# Altium integrated library LT Amplifier Buffer.IntLib: 12 symbols
Pins are listed as number, name and electrical type; pins without a type are passive.

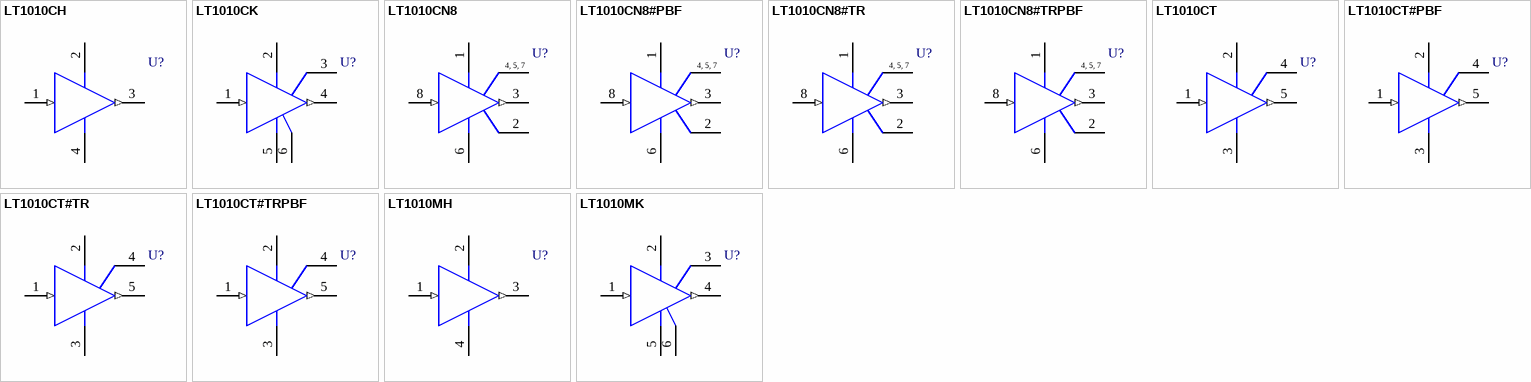
[diagram p0: symbols LT1010CH to LT1010MK]

## LT1010CH
designator U?
Fast ± 150mA Power Buffer; Note: Pin 4 is connected to the CASE.; Note: 136; Published: 8-Jun-2000; LatestRevisionDate: 17-Jul-2002; LatestRevisionNote: Re-released for DXP Platform.; DatasheetVersion: 1990; PackageReference: H4; Publisher: Altium Limited; PackageDescription: Can; 4 Leads; Pin Circle Dia. 5.08 mm; Lead Dia. 0.48 mm (max); ComponentLink1Description: Manufacturer Link; ComponentLink1URL: http://www.linear.com/; ComponentLink2Description: Datasheet; ComponentLink2URL: http://www.linear.com/pc/downloadDocument.do?navId=H0,C1,C1154,C1009,C1028,P1219,D1683
footprint H4 (Can; 4 Leads; Pin Circle Dia. 5.08 mm; Lead Dia. 0.48 mm (max))
pins: 1 IN (in), 2 V+ (power), 3 OUT (out), 4 V- (power)

## LT1010CK
designator U?
Fast ± 150mA Power Buffer; Note: Pins 5 and 6 are the mounting holes of the package.; Note: 137; Published: 8-Jun-2000; LatestRevisionDate: 17-Jul-2002; LatestRevisionNote: Re-released for DXP Platform.; DatasheetVersion: 1990; PackageReference: K4; Publisher: Altium Limited; PackageDescription: Oval Flange Mount; 4 Leads; Pin Circle Dia. 11.94 mm; Lead Dia. 1.09 mm (max); ComponentLink1Description: Manufacturer Link; ComponentLink1URL: http://www.linear.com/; ComponentLink2Description: Datasheet; ComponentLink2URL: http://www.linear.com/pc/downloadDocument.do?navId=H0,C1,C1154,C1009,C1028,P1219,D1683
footprint K4 (Oval Flange Mount; 4 Leads; Pin Circle Dia. 11.94 mm; Lead Dia. 1.09 mm (max))
pins: 1 IN (in), 2 V+ (power), 3 BIAS, 4 OUT (out), 5 V- (power), 6 V- (power)

## LT1010CN8
designator U?
Fast ± 150mA Power Buffer; Note: Pins 4, 5 and 7are NC (not internally connected) pins.; Note: 138; Published: 8-Jun-2000; LatestRevisionDate: 29-May-2009; LatestRevisionNote: Component Body Added.; DatasheetVersion: 1990; PackageVersion: N8 1002; PackageReference: N8; Publisher: Altium Limited; PackageDescription: DIP, Plastic, 8-Pin, Row Spacing 7.62 mm, Pitch 2.54 mm; ComponentLink1Description: Manufacturer Link; ComponentLink1URL: http://www.linear.com/; ComponentLink2Description: Datasheet; ComponentLink2URL: http://www.linear.com/pc/downloadDocument.do?navId=H0,C1,C1154,C1009,C1028,P1219,D1683
footprint N8 (DIP, 8-Leads, Row Spacing 7.62mm, Pitch 2.54mm, Body 9.78x6.48mm)
3D model N8 (DIP, Plastic, 8-Pin, Row Spacing 7.62 mm, Pitch 2.54 mm)
simulation model LT1010 (SUBCKT)
pins: 1 V+ (power), 2 BIAS, 3 OUT (out), 4 NC, 5 NC, 6 V- (power), 7 NC, 8 IN (in)
text: 4, 5, 7

## LT1010CN8#PBF
designator U?
Fast ± 150mA Power Buffer; Note: Pins 4, 5 and 7are NC (not internally connected) pins.; Note: 140; Published: 8-Jun-2000; LatestRevisionDate: 29-May-2009; LatestRevisionNote: Component Body Added.; DatasheetVersion: 1990; PackageVersion: N8 1002; PackageReference: N8; Publisher: Altium Limited; PackageDescription: DIP, Plastic, 8-Pin, Row Spacing 7.62 mm, Pitch 2.54 mm; ComponentLink1Description: Manufacturer Link; ComponentLink1URL: http://www.linear.com/; ComponentLink2Description: Datasheet; ComponentLink2URL: http://www.linear.com/pc/downloadDocument.do?navId=H0,C1,C1154,C1009,C1028,P1219,D1683
footprint N8 (DIP, 8-Leads, Row Spacing 7.62mm, Pitch 2.54mm, Body 9.78x6.48mm)
3D model N8 (DIP, Plastic, 8-Pin, Row Spacing 7.62 mm, Pitch 2.54 mm)
simulation model LT1010 (SUBCKT)
pins: 1 V+ (power), 2 BIAS, 3 OUT (out), 4 NC, 5 NC, 6 V- (power), 7 NC, 8 IN (in)
text: 4, 5, 7

## LT1010CN8#TR
designator U?
Fast ± 150mA Power Buffer; Note: Pins 4, 5 and 7are NC (not internally connected) pins.; Note: 139; Published: 8-Jun-2000; LatestRevisionDate: 29-May-2009; LatestRevisionNote: Component Body Added.; DatasheetVersion: 1990; PackageVersion: N8 1002; PackageReference: N8; Publisher: Altium Limited; PackageDescription: DIP, Plastic, 8-Pin, Row Spacing 7.62 mm, Pitch 2.54 mm; ComponentLink1Description: Manufacturer Link; ComponentLink1URL: http://www.linear.com/; ComponentLink2Description: Datasheet; ComponentLink2URL: http://www.linear.com/pc/downloadDocument.do?navId=H0,C1,C1154,C1009,C1028,P1219,D1683
footprint N8 (DIP, 8-Leads, Row Spacing 7.62mm, Pitch 2.54mm, Body 9.78x6.48mm)
3D model N8 (DIP, Plastic, 8-Pin, Row Spacing 7.62 mm, Pitch 2.54 mm)
simulation model LT1010 (SUBCKT)
pins: 1 V+ (power), 2 BIAS, 3 OUT (out), 4 NC, 5 NC, 6 V- (power), 7 NC, 8 IN (in)
text: 4, 5, 7

## LT1010CN8#TRPBF
designator U?
Fast ± 150mA Power Buffer; Note: Pins 4, 5 and 7are NC (not internally connected) pins.; Note: 141; Published: 8-Jun-2000; LatestRevisionDate: 29-May-2009; LatestRevisionNote: Component Body Added.; DatasheetVersion: 1990; PackageVersion: N8 1002; PackageReference: N8; Publisher: Altium Limited; PackageDescription: DIP, Plastic, 8-Pin, Row Spacing 7.62 mm, Pitch 2.54 mm; ComponentLink1Description: Manufacturer Link; ComponentLink1URL: http://www.linear.com/; ComponentLink2Description: Datasheet; ComponentLink2URL: http://www.linear.com/pc/downloadDocument.do?navId=H0,C1,C1154,C1009,C1028,P1219,D1683
footprint N8 (DIP, 8-Leads, Row Spacing 7.62mm, Pitch 2.54mm, Body 9.78x6.48mm)
3D model N8 (DIP, Plastic, 8-Pin, Row Spacing 7.62 mm, Pitch 2.54 mm)
simulation model LT1010 (SUBCKT)
pins: 1 V+ (power), 2 BIAS, 3 OUT (out), 4 NC, 5 NC, 6 V- (power), 7 NC, 8 IN (in)
text: 4, 5, 7

## LT1010CT
designator U?
Fast ± 150mA Power Buffer; Note: 142; Published: 8-Jun-2000; LatestRevisionDate: 28-Feb-2003; LatestRevisionNote: PCB replaced.; DatasheetVersion: 1990; PackageReference: T5; Publisher: Altium Limited; PackageDescription: TO, Thru-Hole, Vertical, Heatsink Mounted; 5 Bent Staggered Leads; Pitch 1.7mm; ComponentLink1Description: Manufacturer Link; ComponentLink1URL: http://www.linear.com/; ComponentLink2Description: Datasheet; ComponentLink2URL: http://www.linear.com/pc/downloadDocument.do?navId=H0,C1,C1154,C1009,C1028,P1219,D1683
footprint T5 (TO, Thru-Hole, Vertical, Heatsink Mounted; 5 Bent Staggered Leads; Pitch 1.7mm)
simulation model LT1010 (SUBCKT)
pins: 1 IN (in), 2 V+ (power), 3 V- (power), 4 BIAS, 5 OUT (out)

## LT1010CT#PBF
designator U?
Fast ± 150mA Power Buffer; Note: 144; Published: 8-Jun-2000; LatestRevisionDate: 28-Feb-2003; LatestRevisionNote: PCB replaced.; DatasheetVersion: 1990; PackageReference: T5; Publisher: Altium Limited; PackageDescription: TO, Thru-Hole, Vertical, Heatsink Mounted; 5 Bent Staggered Leads; Pitch 1.7mm; ComponentLink1Description: Manufacturer Link; ComponentLink1URL: http://www.linear.com/; ComponentLink2Description: Datasheet; ComponentLink2URL: http://www.linear.com/pc/downloadDocument.do?navId=H0,C1,C1154,C1009,C1028,P1219,D1683
footprint T5 (TO, Thru-Hole, Vertical, Heatsink Mounted; 5 Bent Staggered Leads; Pitch 1.7mm)
simulation model LT1010 (SUBCKT)
pins: 1 IN (in), 2 V+ (power), 3 V- (power), 4 BIAS, 5 OUT (out)

## LT1010CT#TR
designator U?
Fast ± 150mA Power Buffer; Note: 143; Published: 8-Jun-2000; LatestRevisionDate: 28-Feb-2003; LatestRevisionNote: PCB replaced.; DatasheetVersion: 1990; PackageReference: T5; Publisher: Altium Limited; PackageDescription: TO, Thru-Hole, Vertical, Heatsink Mounted; 5 Bent Staggered Leads; Pitch 1.7mm; ComponentLink1Description: Manufacturer Link; ComponentLink1URL: http://www.linear.com/; ComponentLink2Description: Datasheet; ComponentLink2URL: http://www.linear.com/pc/downloadDocument.do?navId=H0,C1,C1154,C1009,C1028,P1219,D1683
footprint T5 (TO, Thru-Hole, Vertical, Heatsink Mounted; 5 Bent Staggered Leads; Pitch 1.7mm)
simulation model LT1010 (SUBCKT)
pins: 1 IN (in), 2 V+ (power), 3 V- (power), 4 BIAS, 5 OUT (out)

## LT1010CT#TRPBF
designator U?
Fast ± 150mA Power Buffer; Note: 145; Published: 8-Jun-2000; LatestRevisionDate: 28-Feb-2003; LatestRevisionNote: PCB replaced.; DatasheetVersion: 1990; PackageReference: T5; Publisher: Altium Limited; PackageDescription: TO, Thru-Hole, Vertical, Heatsink Mounted; 5 Bent Staggered Leads; Pitch 1.7mm; ComponentLink1Description: Manufacturer Link; ComponentLink1URL: http://www.linear.com/; ComponentLink2Description: Datasheet; ComponentLink2URL: http://www.linear.com/pc/downloadDocument.do?navId=H0,C1,C1154,C1009,C1028,P1219,D1683
footprint T5 (TO, Thru-Hole, Vertical, Heatsink Mounted; 5 Bent Staggered Leads; Pitch 1.7mm)
simulation model LT1010 (SUBCKT)
pins: 1 IN (in), 2 V+ (power), 3 V- (power), 4 BIAS, 5 OUT (out)

## LT1010MH
designator U?
Fast ± 150mA Power Buffer; Note: Pin 4 is connected to the CASE.; Note: 146; Published: 8-Jun-2000; LatestRevisionDate: 17-Jul-2002; LatestRevisionNote: Re-released for DXP Platform.; DatasheetVersion: 1990; PackageReference: H4; Publisher: Altium Limited; PackageDescription: Can; 4 Leads; Pin Circle Dia. 5.08 mm; Lead Dia. 0.48 mm (max); ComponentLink1Description: Manufacturer Link; ComponentLink1URL: http://www.linear.com/; ComponentLink2Description: Datasheet; ComponentLink2URL: http://www.linear.com/pc/downloadDocument.do?navId=H0,C1,C1154,C1009,C1028,P1219,D1683
footprint H4 (Can; 4 Leads; Pin Circle Dia. 5.08 mm; Lead Dia. 0.48 mm (max))
pins: 1 IN (in), 2 V+ (power), 3 OUT (out), 4 V- (power)

## LT1010MK
designator U?
Fast ± 150mA Power Buffer; Note: Pins 5 and 6 are the mounting holes of the package.; Note: 147; Published: 8-Jun-2000; LatestRevisionDate: 17-Jul-2002; LatestRevisionNote: Re-released for DXP Platform.; DatasheetVersion: 1990; PackageReference: K4; Publisher: Altium Limited; PackageDescription: Oval Flange Mount; 4 Leads; Pin Circle Dia. 11.94 mm; Lead Dia. 1.09 mm (max); ComponentLink1Description: Manufacturer Link; ComponentLink1URL: http://www.linear.com/; ComponentLink2Description: Datasheet; ComponentLink2URL: http://www.linear.com/pc/downloadDocument.do?navId=H0,C1,C1154,C1009,C1028,P1219,D1683
footprint K4 (Oval Flange Mount; 4 Leads; Pin Circle Dia. 11.94 mm; Lead Dia. 1.09 mm (max))
pins: 1 IN (in), 2 V+ (power), 3 BIAS, 4 OUT (out), 5 V- (power), 6 V- (power)